# EAGLE library part PARTICLE_PHOTON (library SparkFun-Boards)
Particle Photon Footprint of the Particle Photon that is used as a basis for many Photon shields. SparkFun Products: Particle Photon <https://www.sparkfun.com/products/13764> SparkFun Photon ProtoShield <https://www.sparkfun.com/products/13598> SparkFun Photon micro OLED Shield <https://www.sparkfun.com/products/13628> SparkFun Photon IMU Shield <https://www.sparkfun.com/products/13629> SparkFun Photon Battery Shield <https://www.sparkfun.com/products/13626>
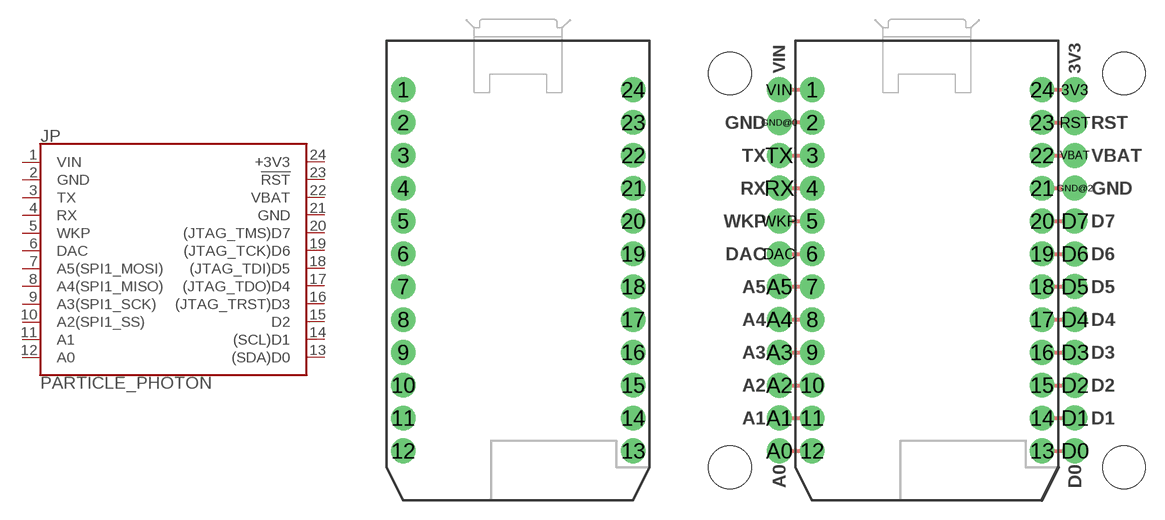
[diagram p18: symbol with the pads of PARTICLE_PHOTON; footprints PARTICLE_PHOTON, PARTICLE_PHOTON_TEMPLATE]

Designator prefix JP

## PARTICLE_PHOTON  [PARTICLE_PHOTON]
1  VIN  pwr
2  GND  pwr
3  TX
4  RX
5  WKP
6  DAC
7  A5(SPI1_MOSI)
8  A4(SPI1_MISO)
9  A3(SPI1_SCK)
10  A2(SPI1_SS)
11  A1
12  A0
13  (SDA)D0
14  (SCL)D1
15  D2
16  (JTAG_TRST)D3
17  (JTAG_TDO)D4
18  (JTAG_TDI)D5
19  (JTAG_TCK)D6
20  (JTAG_TMS)D7
21  GND  pwr
22  VBAT  pwr
23  !RST!
24  +3V3  pwr

## PARTICLE_PHOTONTEMPLATE  [PARTICLE_PHOTON_TEMPLATE]
1  VIN  pwr
2  GND  pwr
3  TX
3V3  +3V3  pwr
4  RX
5  WKP
6  DAC
7  A5(SPI1_MOSI)
8  A4(SPI1_MISO)
9  A3(SPI1_SCK)
10  A2(SPI1_SS)
11  A1
12  A0
13  (SDA)D0
14  (SCL)D1
15  D2
16  (JTAG_TRST)D3
17  (JTAG_TDO)D4
18  (JTAG_TDI)D5
19  (JTAG_TCK)D6
20  (JTAG_TMS)D7
21  GND  pwr
22  VBAT  pwr
23  !RST!
24  +3V3  pwr
A0  A0
A1  A1
A2  A2(SPI1_SS)
A3  A3(SPI1_SCK)
A4  A4(SPI1_MISO)
A5  A5(SPI1_MOSI)
D0  (SDA)D0
D1  (SCL)D1
D2  D2
D3  (JTAG_TRST)D3
D4  (JTAG_TDO)D4
D5  (JTAG_TDI)D5
D6  (JTAG_TCK)D6
D7  (JTAG_TMS)D7
DAC  DAC
GND@0  GND  pwr
GND@2  GND  pwr
RST  !RST!
RX  RX
TX  TX
VBAT  VBAT  pwr
VIN  VIN  pwr
WKP  WKP

## PARTICLE_PHOTONTEMPLATE_WIDE  [PARTICLE_PHOTON_TEMPLATE_WIDE]
Pads as for PARTICLE_PHOTON_TEMPLATE

## PARTICLE_PHOTONTEMPLATE_NO_STANDOFF  [PARTICLE_PHOTON_TEMPLATE_NO_STANDOFF]
Pads as for PARTICLE_PHOTON_TEMPLATE

## Footprint PARTICLE_PHOTON (pad centres in mm)
Particle Photon Specifications: Pin count: 24 Pin pitch:0.1" Area: 0.8 x 1.4 inches Example device(s): Particle Photon
drill 1.016 pad 1.905: 1 -8.89,13.97; 2 -8.89,11.43; 3 -8.89,8.89; 4 -8.89,6.35; 5 -8.89,3.81; 6 -8.89,1.27; 7 -8.89,-1.27; 8 -8.89,-3.81; 9 -8.89,-6.35; 10 -8.89,-8.89; 11 -8.89,-11.43; 12 -8.89,-13.97; 13 8.89,-13.97; 14 8.89,-11.43; 15 8.89,-8.89; 16 8.89,-6.35; 17 8.89,-3.81; 18 8.89,-1.27; 19 8.89,1.27; 20 8.89,3.81; 21 8.89,6.35; 22 8.89,8.89; 23 8.89,11.43; 24 8.89,13.97

## Footprint PARTICLE_PHOTON_TEMPLATE (pad centres in mm)
Particle Photon Template Used for laying out a shield that breaks out Photon pins. Specifications: Pin count:48 Pin pitch:0.1" Area: 0.8 x 1.4 inches Example device(s): Particle Photon
drill 1.016 pad 1.905: 1 -8.89,13.97; 2 -8.89,11.43; 3 -8.89,8.89; 4 -8.89,6.35; 5 -8.89,3.81; 6 -8.89,1.27; 7 -8.89,-1.27; 8 -8.89,-3.81; 9 -8.89,-6.35; 10 -8.89,-8.89; 11 -8.89,-11.43; 12 -8.89,-13.97; 13 8.89,-13.97; 14 8.89,-11.43; 15 8.89,-8.89; 16 8.89,-6.35; 17 8.89,-3.81; 18 8.89,-1.27; 19 8.89,1.27; 20 8.89,3.81; 21 8.89,6.35; 22 8.89,8.89; 23 8.89,11.43; 24 8.89,13.97
drill 1.016 pad 1.93: 3V3 11.43,13.97; A0 -11.43,-13.97; A1 -11.43,-11.43; A2 -11.43,-8.89; A3 -11.43,-6.35; A4 -11.43,-3.81; A5 -11.43,-1.27; D0 11.43,-13.97; D1 11.43,-11.43; D2 11.43,-8.89; D3 11.43,-6.35; D4 11.43,-3.81; D5 11.43,-1.27; D6 11.43,1.27; D7 11.43,3.81; DAC -11.43,1.27; GND@0 -11.43,11.43; GND@2 11.43,6.35; RST 11.43,11.43; RX -11.43,6.35; TX -11.43,8.89; VBAT 11.43,8.89; VIN -11.43,13.97; WKP -11.43,3.81
hole 3.302 at -15.24,15.24
hole 3.302 at 15.24,15.24
hole 3.302 at -15.24,-15.24
hole 3.302 at 15.24,-15.24

## Footprint PARTICLE_PHOTON_TEMPLATE_WIDE (pad centres in mm)
Particle Photon Template wIDE Used for laying out a shield that breaks out Photon pins with 0.2" spacing. Specifications: Pin count:48 Pin pitch:0.1" Area: 1.6 x 1.4 inches Example device(s): Particle Photon
drill 1.016 pad 1.905: 1 -8.89,13.97; 2 -8.89,11.43; 3 -8.89,8.89; 4 -8.89,6.35; 5 -8.89,3.81; 6 -8.89,1.27; 7 -8.89,-1.27; 8 -8.89,-3.81; 9 -8.89,-6.35; 10 -8.89,-8.89; 11 -8.89,-11.43; 12 -8.89,-13.97; 13 8.89,-13.97; 14 8.89,-11.43; 15 8.89,-8.89; 16 8.89,-6.35; 17 8.89,-3.81; 18 8.89,-1.27; 19 8.89,1.27; 20 8.89,3.81; 21 8.89,6.35; 22 8.89,8.89; 23 8.89,11.43; 24 8.89,13.97
drill 1.016 pad 1.93: 3V3 13.97,13.97; A0 -13.97,-13.97; A1 -13.97,-11.43; A2 -13.97,-8.89; A3 -13.97,-6.35; A4 -13.97,-3.81; A5 -13.97,-1.27; D0 13.97,-13.97; D1 13.97,-11.43; D2 13.97,-8.89; D3 13.97,-6.35; D4 13.97,-3.81; D5 13.97,-1.27; D6 13.97,1.27; D7 13.97,3.81; DAC -13.97,1.27; GND@0 -13.97,11.43; GND@2 13.97,6.35; RST 13.97,11.43; RX -13.97,6.35; TX -13.97,8.89; VBAT 13.97,8.89; VIN -13.97,13.97; WKP -13.97,3.81
hole 3.302 at -17.78,15.24
hole 3.302 at 17.78,15.24
hole 3.302 at -17.78,-15.24
hole 3.302 at 17.78,-15.24

## Footprint PARTICLE_PHOTON_TEMPLATE_NO_STANDOFF (pad centres in mm)
drill 1.016 pad 1.905: 1 -8.89,12.7; 2 -8.89,10.16; 3 -8.89,7.62; 4 -8.89,5.08; 5 -8.89,2.54; 6 -8.89,0; 7 -8.89,-2.54; 8 -8.89,-5.08; 9 -8.89,-7.62; 10 -8.89,-10.16; 11 -8.89,-12.7; 12 -8.89,-15.24; 13 8.89,-15.24; 14 8.89,-12.7; 15 8.89,-10.16; 16 8.89,-7.62; 17 8.89,-5.08; 18 8.89,-2.54; 19 8.89,0; 20 8.89,2.54; 21 8.89,5.08; 22 8.89,7.62; 23 8.89,10.16; 24 8.89,12.7
drill 1.016 pad 1.93: 3V3 11.43,12.7; A0 -11.43,-15.24; A1 -11.43,-12.7; A2 -11.43,-10.16; A3 -11.43,-7.62; A4 -11.43,-5.08; A5 -11.43,-2.54; D0 11.43,-15.24; D1 11.43,-12.7; D2 11.43,-10.16; D3 11.43,-7.62; D4 11.43,-5.08; D5 11.43,-2.54; D6 11.43,0; D7 11.43,2.54; DAC -11.43,0; GND@0 -11.43,10.16; GND@2 11.43,5.08; RST 11.43,10.16; RX -11.43,5.08; TX -11.43,7.62; VBAT 11.43,7.62; VIN -11.43,12.7; WKP -11.43,2.54